# EAGLE library part HK19F-DC (library Relay)
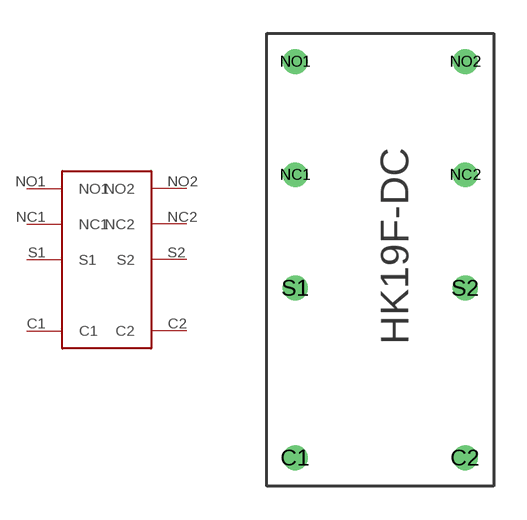
[diagram p0: symbol with the pads of HK19F-DC5V-SHG; footprint HK19F-DC5V-SHG]

Designator prefix -

## HK19F-DC  [HK19F-DC5V-SHG]
C1  C1
C2  C2
NC1  NC1
NC2  NC2
NO1  NO1
NO2  NO2
S1  S1
S2  S2

## Footprint HK19F-DC5V-SHG (pad centres in mm)
drill 0.6: C1 -3.81,0; C2 3.81,0; NC1 -3.81,12.7; NC2 3.81,12.7; NO1 -3.81,17.78; NO2 3.81,17.78; S1 -3.81,7.62; S2 3.81,7.62